# Altium footprint library PAL3.PcbLib: 145 footprints (part 9 of 10)
Each footprint in its own frame and in the unit in brackets; x right, y up, seen from the top. Pads: shape width x height; smd on the part's side, far side on the other; paste and mask are expansions set on the pad; w line width, h text height; cw(c..) or ccw(c..) is an arc to the next point about the centre after c.
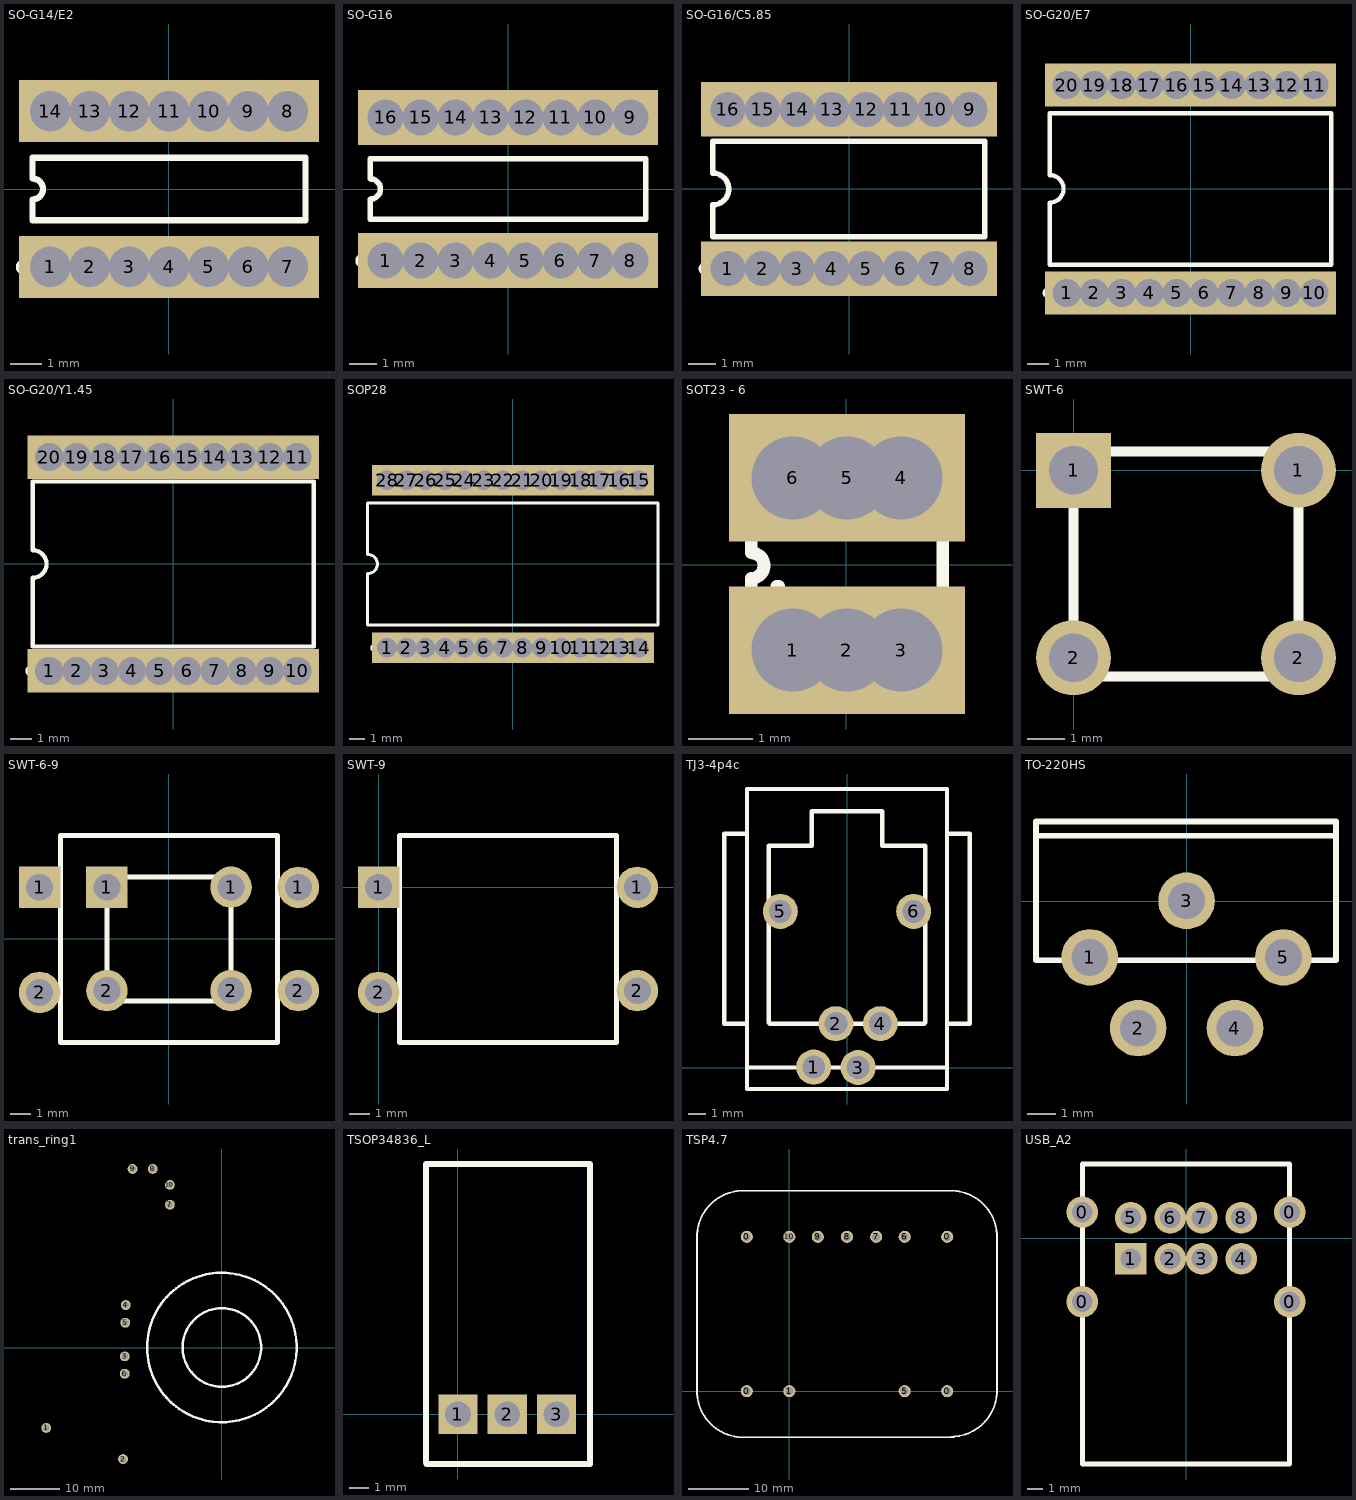
[diagram p8: the footprints below, top view; thin cyan lines are the x and y axes]

## SO-G14/E2 [mm]
pads (14):
  rect 2x2 on Top hole 1.3: 1(-3.808,-2.494) 2(-2.538,-2.494) 3(-1.268,-2.494) 4(0.002,-2.494) 5(1.272,-2.494) 6(2.542,-2.494) 7(3.812,-2.494) 8(3.812,2.506) 9(2.542,2.506) 10(1.272,2.506) 11(0.002,2.506) 12(-1.268,2.506) 13(-2.538,2.506) 14(-3.808,2.506)
Top Overlay:
  circle w0.25: c-4.658,-2.494 r0.125
  lines w0.2: -4.373,-0.994 4.377,-0.994 4.377,1.006 -4.373,1.006 -4.373,0.34 cw(c-4.373,0.006) -4.373,-0.327 -4.373,-0.994

## SO-G16 [mm]
pads (16):
  rect 2x2 on Top hole 1.3: 1(-4.453,-2.589) 2(-3.183,-2.589) 3(-1.913,-2.589) 4(-0.643,-2.589) 5(0.627,-2.589) 6(1.897,-2.589) 7(3.167,-2.589) 8(4.437,-2.589) 9(4.437,2.611) 10(3.167,2.611) 11(1.897,2.611) 12(0.627,2.611) 13(-0.643,2.611) 14(-1.913,2.611) 15(-3.183,2.611) 16(-4.453,2.611)
Top Overlay:
  circle w0.25: c-5.303,-2.589 r0.125
  lines w0.2: -5.008,-1.089 -5.008,-0.356 ccw(c-5.008,0.011) -5.008,0.378 -5.008,1.111 4.992,1.111 4.992,-1.089 -5.008,-1.089

## SO-G16/C5.85 [mm]
pads (16):
  rect 2x2 on Top hole 1.3: 1(-4.452,-2.93) 2(-3.182,-2.93) 3(-1.912,-2.93) 4(-0.642,-2.93) 5(0.628,-2.93) 6(1.898,-2.93) 7(3.168,-2.93) 8(4.438,-2.93) 9(4.438,2.92) 10(3.168,2.92) 11(1.898,2.92) 12(0.628,2.92) 13(-0.642,2.92) 14(-1.912,2.92) 15(-3.182,2.92) 16(-4.452,2.92)
Top Overlay:
  circle w0.25: c-5.277,-2.93 r0.125
  lines w0.2: -5.007,-1.755 4.993,-1.755 4.993,1.745 -5.007,1.745 -5.007,0.578 cw(c-5.007,-0.005) -5.007,-0.588 -5.007,-1.755

## SO-G20/E7 [mm]
pads (20):
  rect 2x2 on Top hole 1.3: 1(-5.721,-4.803) 2(-4.451,-4.803) 3(-3.181,-4.803) 4(-1.911,-4.803) 5(-0.641,-4.803) 6(0.629,-4.803) 7(1.899,-4.803) 8(3.169,-4.803) 9(4.439,-4.803) 10(5.709,-4.803) 11(5.709,4.797) 12(4.439,4.797) 13(3.169,4.797) 14(1.899,4.797) 15(0.629,4.797) 16(-0.641,4.797) 17(-1.911,4.797) 18(-3.181,4.797) 19(-4.451,4.797) 20(-5.721,4.797)
Top Overlay:
  circle w0.25: c-6.581,-4.803 r0.125
  lines w0.2: -6.506,-0.638 -6.506,-3.503 6.494,-3.503 6.494,3.497 -6.506,3.497 -6.506,0.632 ; -6.506,-0.633 ccw(c-6.506,0.002) -6.506,0.637

## SO-G20/Y1.45 [mm]
pads (20):
  rect 2x2 on Top hole 1.3: 1(-5.706,-4.925) 2(-4.436,-4.925) 3(-3.166,-4.925) 4(-1.896,-4.925) 5(-0.626,-4.925) 6(0.644,-4.925) 7(1.914,-4.925) 8(3.184,-4.925) 9(4.454,-4.925) 10(5.724,-4.925) 11(5.724,4.925) 12(4.454,4.925) 13(3.184,4.925) 14(1.914,4.925) 15(0.644,4.925) 16(-0.626,4.925) 17(-1.896,4.925) 18(-3.166,4.925) 19(-4.436,4.925) 20(-5.706,4.925)
Top Overlay:
  circle w0.25: c-6.556,-4.925 r0.125
  lines w0.2: -6.466,-3.8 6.484,-3.8 6.484,3.8 -6.466,3.8 -6.466,0.635 cw(c-6.466,0) -6.466,-0.635 -6.466,-3.8

## SOP28 [mm]
pads (28):
  rect 2x2 on Top hole 1.3: 1(-8.247,-5.502) 2(-6.977,-5.502) 3(-5.707,-5.502) 4(-4.437,-5.502) 5(-3.167,-5.502) 6(-1.897,-5.502) 7(-0.627,-5.502) 8(0.643,-5.502) 9(1.913,-5.502) 10(3.183,-5.502) 11(4.453,-5.502) 12(5.723,-5.502) 13(6.993,-5.502) 14(8.263,-5.502) 15(8.263,5.498) 16(6.993,5.498) 17(5.723,5.498) 18(4.453,5.498) 19(3.183,5.498) 20(1.913,5.498) 21(0.643,5.498) 22(-0.627,5.498) 23(-1.897,5.498) 24(-3.167,5.498) 25(-4.437,5.498) 26(-5.707,5.498) 27(-6.977,5.498) 28(-8.247,5.498)
Top Overlay:
  circle w0.25: c-9.097,-5.502 r0.125
  lines w0.2: -9.517,-4.002 9.533,-4.002 9.533,3.998 -9.517,3.998 -9.517,0.633 cw(c-9.517,-0.002) -9.517,-0.637 -9.517,-4.002

## SOT23 - 6 [mm]
pads (6):
  rect 2x2 on Top hole 1.3: 1(-0.835,-1.337) 2(0.015,-1.337) 3(0.865,-1.337) 4(0.865,1.363) 5(0.015,1.363) 6(-0.835,1.363)
Top Overlay:
  lines w0.2: -1.085,-0.337 -1.06,-0.337 ; -1.485,-0.712 1.515,-0.712 1.515,0.738 -1.485,0.738 -1.485,0.188 cw(c-1.485,-0.012) -1.485,-0.212 -1.485,-0.712

## SWT-6 [mm]
pads (4):
  rect 2x2 hole 1.3: 1(-0.009,-0.001)
  round 2 hole 1.3: 1(5.991,-0.001) 2(-0.009,-5.001) 2(5.991,-5.001)
Top Overlay:
  lines w0.254: -0.009,-5.501 5.991,-5.501 5.991,0.499 -0.009,0.499 -0.009,-5.501

## SWT-6-9 [mm]
pads (8):
  rect 2x2 hole 1.3: 1(-6.234,2.497) 1(-2.984,2.499)
  round 2 hole 1.3: 1(3.016,2.499) 1(6.266,2.497) 2(-6.234,-2.583) 2(-2.984,-2.501) 2(3.016,-2.501) 2(6.266,-2.503)
Top Overlay:
  lines w0.254: -5.234,-5.003 -5.234,4.997 5.266,4.997 5.266,-5.003 -5.234,-5.003 ; -2.984,-3.001 -2.984,2.999 3.016,2.999 3.016,-3.001 -2.984,-3.001

## SWT-9 [mm]
pads (4):
  rect 2x2 hole 1.3: 1(-0.009,-0.003)
  round 2 hole 1.3: 1(12.491,-0.003) 2(-0.009,-5.083) 2(12.491,-5.003)
Top Overlay:
  lines w0.254: 0.991,-7.503 0.991,2.497 11.491,2.497 11.491,-7.503 0.991,-7.503

## TJ3-4p4c [mm]
pads (6):
  round 2 hole 1.3: 1(-1.9,0.025) 2(-0.635,2.5) 3(0.635,0) 4(1.9,2.5) 5(-3.8,8.9) 6(3.8,8.9)
Top Overlay:
  lines w0.254: -5.7,2.5 -7,2.5 -7,13.325 -5.7,13.325 ; -0.025,2.5 -4.4,2.5 -4.45,2.55 -4.45,12.65 -2,12.65 -2,14.6 0,14.6 2,14.6 2,12.65 4.45,12.65 4.45,2.55 4.4,2.5 0.025,2.5 ; 5.7,2.5 7,2.5 7,13.325 5.7,13.325 ; -5.7,0 -5.7,15.875 0,15.875 5.7,15.875 5.7,0 ; -5.7,0 0,0 5.7,0 ; -5.7,0 -5.7,-1.225 5.7,-1.225 5.7,0

## TO-220HS [mm]
pads (5):
  round 2 hole 1.3: 1(-3.429,-1.989) 2(-1.719,-4.489) 3(-0.009,0.011) 4(1.701,-4.489) 5(3.411,-1.989)
Top Overlay:
  lines w0.2: -5.329,2.311 5.271,2.311 ; -5.329,-2.089 -5.329,2.811 5.271,2.811 5.271,-2.089 -5.329,-2.089

## trans_ring1 [mm]
pads (10):
  round 2 hole 1.3: 1(-35.8,-16.39) 2(-20.15,-22.74) 3(-19.8,-1.79) 4(-19.6,8.66) 5(-19.7,5.06) 6(-19.8,-5.34) 8(-14.1,36.41) 9(-18.2,36.41) 10(-10.6,33.16)
  round 2 hole 1.3 unplated: 7(-10.6,29.11)
Top Overlay:
  circle w0.5: c0,0.01 r8.001
  circle w0.5: c0,0.01 r15.24

## TSOP34836_L [mm]
pads (3):
  rect 2x2 on Top hole 1.3: 1(0,0) 2(2.5,0) 3(5,0)
Top Overlay:
  lines w0.3: -1.625,-2.45 -1.625,12.7 6.7,12.7 6.7,-2.525 -1.6,-2.525

## TSP4.7 [mm]
pads (11):
  round 2 hole 1.3: 0(-6.999,0.009) 0(-6.999,25.409) 0(26.001,0.009) 0(26.001,25.409) 1(0.001,0.009) 5(19.001,0.009) 6(19.001,25.409) 7(14.301,25.409) 8(9.501,25.409) 9(4.701,25.409) 10(0.001,25.409)
Top Overlay:
  lines w0.3: 26.601,-7.491 ccw(c26.601,0.109) 34.201,0.109 ; 27.101,-7.591 -7.599,-7.591 cw(c-7.599,0.009) -15.199,0.009 -15.199,25.409 cw(c-7.599,25.409) -7.599,33.009 26.601,33.009 cw(c26.601,25.409) 34.201,25.409 34.201,0.009

## USB_A2 [mm]
pads (12):
  round 2 hole 1.3: 0(-6.57,-4.02) 0(-6.57,1.66) 0(6.57,-4.02) 0(6.57,1.66) 2(-1,-1.3) 3(1,-1.3) 4(3.5,-1.3) 5(-3.5,1.3) 6(-1,1.3) 7(1,1.3) 8(3.5,1.3)
  rect 2x2 hole 1.3: 1(-3.5,-1.3)
Top Overlay:
  lines w0.3: -6.55,-14.28 6.55,-14.28 6.55,4.7 -6.55,4.7 -6.55,-14.28